# Altium schematic symbol library IC-Logic.SchLib: 7 symbols
Pins are listed as number, name and electrical type; pins without a type are passive.

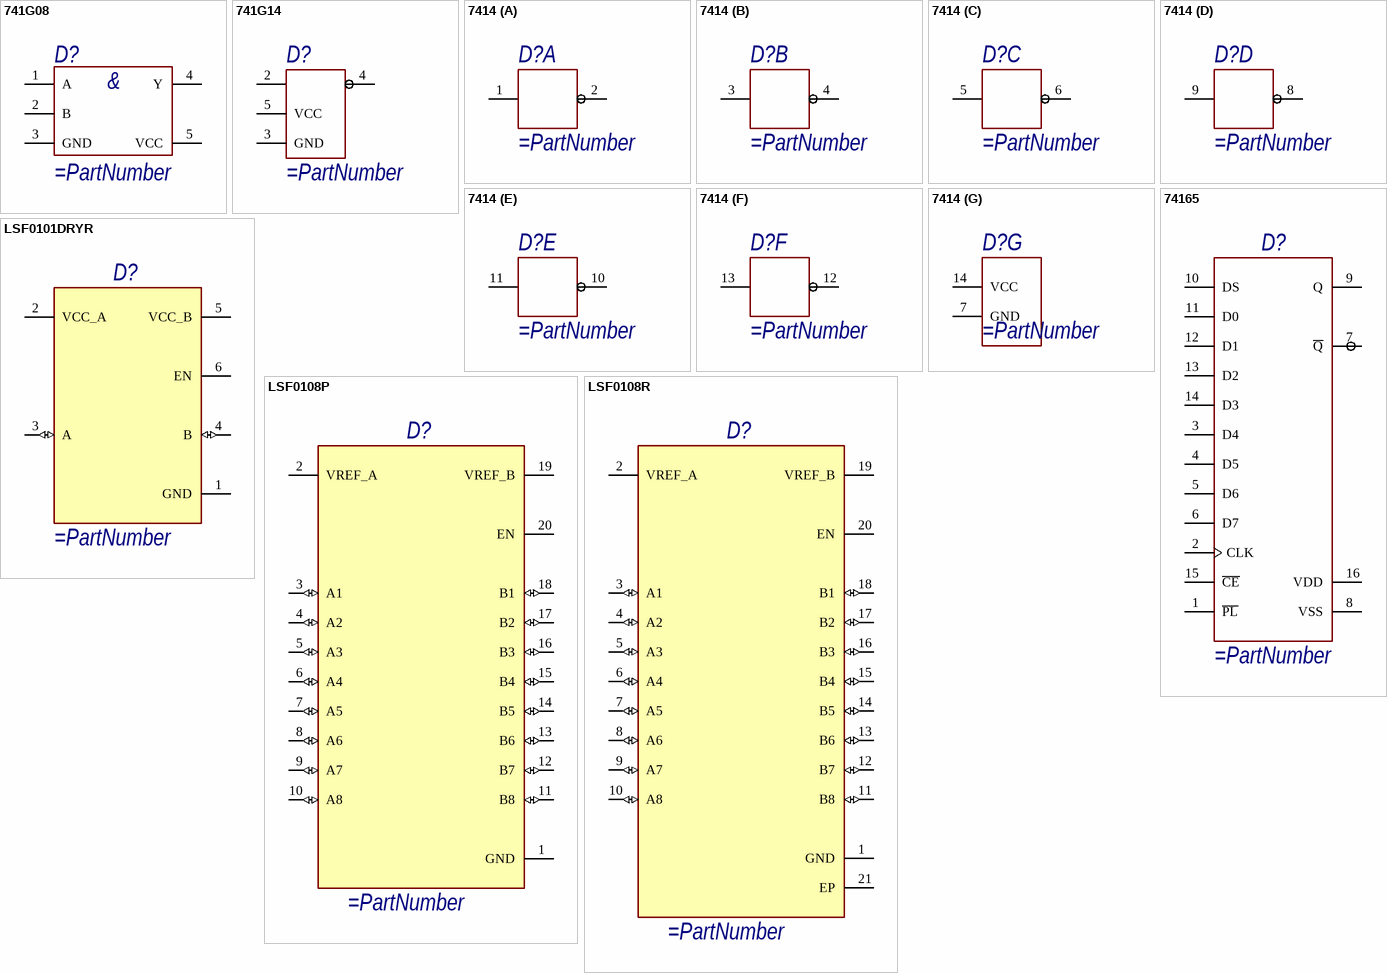
[diagram p0: symbols 741G08 to LSF0108R]

## 741G08
designator D?
pins: 1 A, 2 B, 3 GND, 4 Y, 5 VCC
text: &

## 741G14
designator D?
pins: 2 D, 3 GND, 4 Q, 5 VCC

## 7414
designator D?
part A pins: 1, 2
part B pins: 3, 4
part C pins: 5, 6
part D pins: 8, 9
part E pins: 10, 11
part F pins: 12, 13
part G pins: 7 GND, 14 VCC

## 74165
designator D?
pins: 1 ~{PL}, 2 CLK, 3 D4, 4 D5, 5 D6, 6 D7, 7 ~{Q}, 8 VSS, 9 Q, 10 DS, 11 D0, 12 D1, 13 D2, 14 D3, 15 ~{CE}, 16 VDD

## LSF0101DRYR
designator D?
1 Channel Auto-Bidirectional Multi-Voltage Level Translator for OpenDrain and Push-Pull Applications
pins: 1 GND, 2 VCC_A, 3 A (io), 4 B (io), 5 VCC_B (power), 6 EN

## LSF0108P
designator D?
8 Channel Auto-Bidirectional Multi-Voltage Level Translator for OpenDrain and Push-Pull Applications
pins: 1 GND, 2 VREF_A, 3 A1 (io), 4 A2 (io), 5 A3 (io), 6 A4 (io), 7 A5 (io), 8 A6 (io), 9 A7 (io), 10 A8 (io), 11 B8 (io), 12 B7 (io), 13 B6 (io), 14 B5 (io), 15 B4 (io), 16 B3 (io), 17 B2 (io), 18 B1 (io), 19 VREF_B (power), 20 EN

## LSF0108R
designator D?
8 Channel Auto-Bidirectional Multi-Voltage Level Translator for OpenDrain and Push-Pull Applications
pins: 1 GND, 2 VREF_A, 3 A1 (io), 4 A2 (io), 5 A3 (io), 6 A4 (io), 7 A5 (io), 8 A6 (io), 9 A7 (io), 10 A8 (io), 11 B8 (io), 12 B7 (io), 13 B6 (io), 14 B5 (io), 15 B4 (io), 16 B3 (io), 17 B2 (io), 18 B1 (io), 19 VREF_B (power), 20 EN, 21 EP